# Altium schematic symbol library Capacitors.SchLib: 51 symbols
Pins are listed as number, name and electrical type; pins without a type are passive.

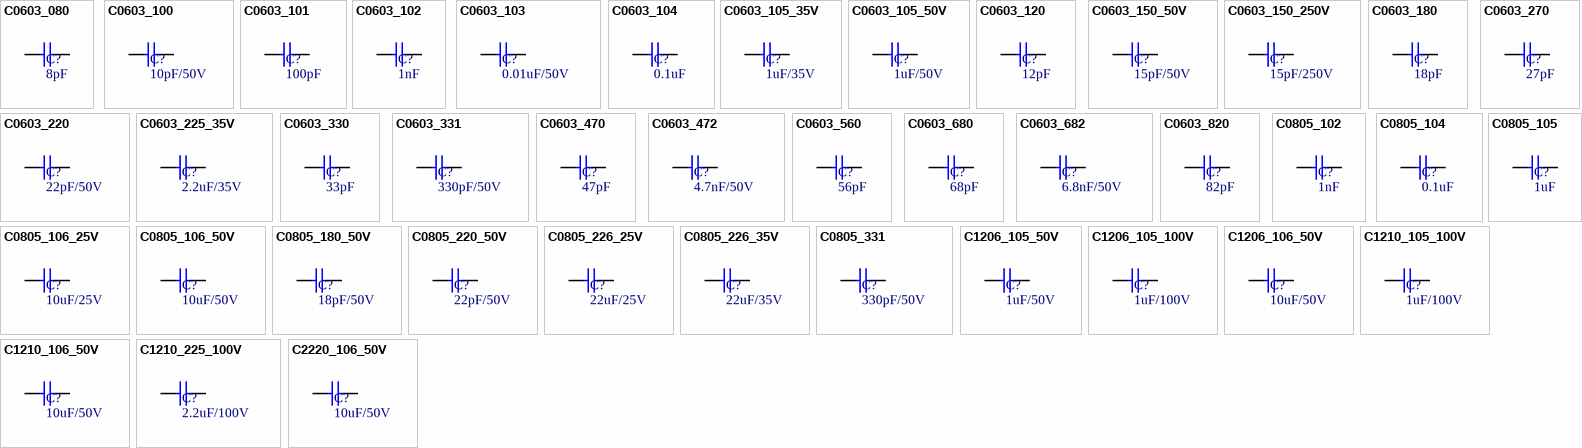
[diagram p0: symbols C0603_080 to C2220_106_50V]

## C0603_080
designator C?, comment 8pF
Capacitor 0603 8 pF; MFG: YAGEO; MFG P/N: CC0603DRNPO9BN8R0; Anunda_Code: M1855; Price: 0.6; Supplier: Digikey; Value: 8pF
simulation model CAP (Semiconductor Capacitor)
signal-integrity model Cap Semi
footprint C0603XS (Chip Capacitor; Body 1.6 x 0.8 mm (LxW typ))
pins: 1, 2

## C0603_100
designator C?, comment 10pF/50V
Capacitor 0603 10 pF 50V; MFG: KEMET; MFG P/N: C0603C100J5GAC7867; Anunda_Code: M0615; Price: 0.6; Supplier: Digikey; Value: 10pF/50V
simulation model CAP (Semiconductor Capacitor)
signal-integrity model Cap Semi
footprint C0603XS (Chip Capacitor; Body 1.6 x 0.8 mm (LxW typ))
pins: 1, 2

## C0603_101
designator C?, comment 100pF
Capacitor 0603 100 pF; MFG: TDK Corporation; MFG P/N: C1608C0G1H101J080AA; Anunda_Code: M0016; Price: 0.6; Supplier: Digikey; Value: 100pF
simulation model CAP (Semiconductor Capacitor)
signal-integrity model Cap Semi
footprint C0603XS (Chip Capacitor; Body 1.6 x 0.8 mm (LxW typ))
pins: 1, 2

## C0603_102
designator C?, comment 1nF
Capacitor 0603 1000 pF; MFG: KEMET; MFG P/N: C0603C102J5GAC7867; Anunda_Code: M0617; Price: 0.6; Supplier: Digikey; Value: 1nF
simulation model CAP (Semiconductor Capacitor)
signal-integrity model Cap Semi
footprint C0603XS (Chip Capacitor; Body 1.6 x 0.8 mm (LxW typ))
pins: 1, 2

## C0603_103
designator C?, comment 0.01uF/50V
Capacitor 0603 10000 pF 50V; MFG: YAGEO; MFG P/N: CC0603KRX7R9BB103; Anunda_Code: M0735; Price: 0.6; Supplier: Digikey; Value: 0.01uF/50V
simulation model CAP (Semiconductor Capacitor)
signal-integrity model Cap Semi
footprint C0603XS (Chip Capacitor; Body 1.6 x 0.8 mm (LxW typ))
pins: 1, 2

## C0603_104
designator C?, comment 0.1uF
Capacitor 0603 0.1 uF; MFG: YAGEO; MFG P/N: CC0603ZRY5V9BB104; Anunda_Code: M0020; Price: 0.6; Supplier: Digikey; Value: 0.1uF
simulation model CAP (Semiconductor Capacitor)
signal-integrity model Cap Semi
footprint C0603XS (Chip Capacitor; Body 1.6 x 0.8 mm (LxW typ))
pins: 1, 2

## C0603_105_35V
designator C?, comment 1uF/35V
Capacitor 0603 1 uF 35V X5R; MFG: TDK Corporation; MFG P/N: C1608X5R1V105K080AB; Anunda_Code: M0618; Price: 0.6; Supplier: Digikey; Value: 1uF/35V
simulation model CAP (Semiconductor Capacitor)
signal-integrity model Cap Semi
footprint C0603XS (Chip Capacitor; Body 1.6 x 0.8 mm (LxW typ))
pins: 1, 2

## C0603_105_50V
designator C?, comment 1uF/50V
Capacitor 0603 1 uF 50V X5R; MFG: Murata Electronics; MFG P/N: GRT188R61H105KE13D; Anunda_Code: M1942; Price: 0.6; Supplier: Digikey; Value: 1uF/50V
simulation model CAP (Semiconductor Capacitor)
signal-integrity model Cap Semi
footprint C0603XS (Chip Capacitor; Body 1.6 x 0.8 mm (LxW typ))
pins: 1, 2

## C0603_120
designator C?, comment 12pF
Capacitor 0603 12 pF; MFG: KEMET; MFG P/N: C0603C120J5GAC7867; Anunda_Code: M0015; Price: 0.6; Supplier: Digikey; Value: 12pF
simulation model CAP (Semiconductor Capacitor)
signal-integrity model Cap Semi
footprint C0603XS (Chip Capacitor; Body 1.6 x 0.8 mm (LxW typ))
pins: 1, 2

## C0603_150_50V
designator C?, comment 15pF/50V
Capacitor 0603 15 pF 50V; MFG: YAGEO; MFG P/N: CC0603JRNPO9BN150; Anunda_Code: M1421; Price: 0.6; Supplier: Digikey; Value: 15pF/50V
simulation model CAP (Semiconductor Capacitor)
signal-integrity model Cap Semi
footprint C0603XS (Chip Capacitor; Body 1.6 x 0.8 mm (LxW typ))
pins: 1, 2

## C0603_150_250V
designator C?, comment 15pF/250V
Capacitor 0603 15 pF 250V; MFG: YAGEO; MFG P/N: AC0603JRNPOYBN150; Anunda_Code: M0988; Price: 0.6; Supplier: Digikey; Value: 15pF/250V
simulation model CAP (Semiconductor Capacitor)
signal-integrity model Cap Semi
footprint C0603XS (Chip Capacitor; Body 1.6 x 0.8 mm (LxW typ))
pins: 1, 2

## C0603_180
designator C?, comment 18pF
Capacitor 0603 18 pF; MFG: Murata Electronics; MFG P/N: GRM1885C1H180JA01D; Anunda_Code: M0660; Price: 0.6; Supplier: Digikey; Value: 18pF
simulation model CAP (Semiconductor Capacitor)
signal-integrity model Cap Semi
footprint C0603XS (Chip Capacitor; Body 1.6 x 0.8 mm (LxW typ))
pins: 1, 2

## C0603_220
designator C?, comment 22pF/50V
Capacitor 0603 22 pF 50V; MFG: TDK Corporation; MFG P/N: C1608C0G1H220J080AA; Anunda_Code: M0614; Price: 0.6; Supplier: Digikey; Value: 22pF/50V
simulation model CAP (Semiconductor Capacitor)
signal-integrity model Cap Semi
footprint C0603XS (Chip Capacitor; Body 1.6 x 0.8 mm (LxW typ))
pins: 1, 2

## C0603_225_35V
designator C?, comment 2.2uF/35V
Capacitor 0603 2.2 uF 35V X5R; MFG: Murata Electronics; MFG P/N: GRM188R6YA225KA12D; Anunda_Code: M1944; Price: 0.6; Supplier: Digikey; Value: 2.2uF/35V
simulation model CAP (Semiconductor Capacitor)
signal-integrity model Cap Semi
footprint C0603XS (Chip Capacitor; Body 1.6 x 0.8 mm (LxW typ))
pins: 1, 2

## C0603_270
designator C?, comment 27pF
Capacitor 0603 27 pF; MFG: KEMET; MFG P/N: C0603C270J5GAC7867; Anunda_Code: M0684; Price: 0.6; Supplier: Digikey; Value: 27pF
simulation model CAP (Semiconductor Capacitor)
signal-integrity model Cap Semi
footprint C0603XS (Chip Capacitor; Body 1.6 x 0.8 mm (LxW typ))
pins: 1, 2

## C0603_330
designator C?, comment 33pF
Capacitor 0603 33 pF; MFG: Murata Electronics; MFG P/N: GRM1885C1H330JA01D; Anunda_Code: M0923; Price: 0.6; Supplier: Digikey; Value: 33pF
simulation model CAP (Semiconductor Capacitor)
signal-integrity model Cap Semi
footprint C0603XS (Chip Capacitor; Body 1.6 x 0.8 mm (LxW typ))
pins: 1, 2

## C0603_331
designator C?, comment 330pF/50V
Capacitor 0603 330 pF 50V; MFG: Murata Electronics; MFG P/N: GRM1885C1H331JA01D; Anunda_Code: M0616; Price: 0.6; Supplier: Digikey; Value: 330pF/50V
simulation model CAP (Semiconductor Capacitor)
signal-integrity model Cap Semi
footprint C0603XS (Chip Capacitor; Body 1.6 x 0.8 mm (LxW typ))
pins: 1, 2

## C0603_470
designator C?, comment 47pF
Capacitor 0603 47 pF; MFG: Murata Electronics; MFG P/N: GRM1885C1H470JA01D; Anunda_Code: M1173; Price: 0.6; Supplier: Digikey; Value: 47pF
simulation model CAP (Semiconductor Capacitor)
signal-integrity model Cap Semi
footprint C0603XS (Chip Capacitor; Body 1.6 x 0.8 mm (LxW typ))
pins: 1, 2

## C0603_472
designator C?, comment 4.7nF/50V
Capacitor 0603 4700 pF 50V; MFG: Samsung Electro-Mechanics; MFG P/N: CL10B472KB8NNNC; Anunda_Code: M0726; Price: 0.6; Supplier: Digikey; Value: 4.7nF/50V
simulation model CAP (Semiconductor Capacitor)
signal-integrity model Cap Semi
footprint C0603XS (Chip Capacitor; Body 1.6 x 0.8 mm (LxW typ))
pins: 1, 2

## C0603_560
designator C?, comment 56pF
Capacitor 0603 56 pF; MFG: YAGEO; MFG P/N: CC0603JRNPO9BN560; Anunda_Code: M1539; Price: 0.6; Supplier: Digikey; Value: 56pF
simulation model CAP (Semiconductor Capacitor)
signal-integrity model Cap Semi
footprint C0603XS (Chip Capacitor; Body 1.6 x 0.8 mm (LxW typ))
pins: 1, 2

## C0603_680
designator C?, comment 68pF
Capacitor 0603 68 pF; MFG: Samsung Electro-Mechanics; MFG P/N: CL10C680JB8NNNC; Anunda_Code: M1400; Price: 0.6; Supplier: Digikey; Value: 68pF
simulation model CAP (Semiconductor Capacitor)
signal-integrity model Cap Semi
footprint C0603XS (Chip Capacitor; Body 1.6 x 0.8 mm (LxW typ))
pins: 1, 2

## C0603_682
designator C?, comment 6.8nF/50V
Capacitor 0603 6800 pF 50V; MFG: Walsin Technology Corporation; MFG P/N: 0603B682K500CT; Anunda_Code: M2163; Price: 0.6; Supplier: Digikey; Value: 6.8nF/50V
simulation model CAP (Semiconductor Capacitor)
signal-integrity model Cap Semi
footprint C0603XS (Chip Capacitor; Body 1.6 x 0.8 mm (LxW typ))
pins: 1, 2

## C0603_820
designator C?, comment 82pF
Capacitor 0603 82 pF; MFG: Samsung Electro-Mechanics; MFG P/N: CL10C820JB81PND; Anunda_Code: M1401; Price: 0.6; Supplier: Digikey; Value: 82pF
simulation model CAP (Semiconductor Capacitor)
signal-integrity model Cap Semi
footprint C0603XS (Chip Capacitor; Body 1.6 x 0.8 mm (LxW typ))
pins: 1, 2

## C0805_102
designator C?, comment 1nF
Capacitor 0805 1 nF; MFG: KEMET; MFG P/N: C0805C102K5RAC7800; Anunda_Code: M0021; Price: 0.6; Supplier: Digikey; Value: 1nF
simulation model CAP (Semiconductor Capacitor)
signal-integrity model Cap Semi
footprint C0805XS (Chip Capacitor;)
pins: 1, 2

## C0805_104
designator C?, comment 0.1uF
Capacitor 0805 0.1 uF; MFG: KEMET; MFG P/N: C0805C104K5RAC7800; Anunda_Code: M0022; Price: 0.6; Supplier: Digikey; Value: 0.1uF
simulation model CAP (Semiconductor Capacitor)
signal-integrity model Cap Semi
footprint C0805XS (Chip Capacitor;)
pins: 1, 2

## C0805_105
designator C?, comment 1uF
Capacitor 0805 1 uF; MFG: Samsung Electro-Mechanics; MFG P/N: CL21A105KBCLNNC; Anunda_Code: M1084; Price: 0.6; Supplier: Digikey; Value: 1uF
simulation model CAP (Semiconductor Capacitor)
signal-integrity model Cap Semi
footprint C0805XS (Chip Capacitor;)
pins: 1, 2

## C0805_106_25V
designator C?, comment 10uF/25V
Capacitor 0805 10 uF 25V; MFG: Samsung Electro-Mechanics; MFG P/N: CL21A106KAYNNNE; Anunda_Code: M1424; Price: 0.6; Supplier: Digikey; Value: 10uF/25V
simulation model CAP (Semiconductor Capacitor)
signal-integrity model Cap Semi
footprint C0805XS (Chip Capacitor;)
pins: 1, 2

## C0805_106_50V
designator C?, comment 10uF/50V
Capacitor 0805 10 uF 50V; MFG: Murata Electronics; MFG P/N: GRM21BR61H106KE43L; Anunda_Code: M0037; Price: 0.6; Supplier: Digikey; Value: 10uF/50V
simulation model CAP (Semiconductor Capacitor)
signal-integrity model Cap Semi
footprint C0805XS (Chip Capacitor;)
pins: 1, 2

## C0805_180_50V
designator C?, comment 18pF/50V
Capacitor 0805 18 pF 50V; MFG: YAGEO; MFG P/N: CC0805JRNPO9BN180; Anunda_Code: M0035; Price: 0.6; Supplier: Digikey; Value: 18pF/50V
simulation model CAP (Semiconductor Capacitor)
signal-integrity model Cap Semi
footprint C0805XS (Chip Capacitor;)
pins: 1, 2

## C0805_220_50V
designator C?, comment 22pF/50V
Capacitor 0805 22 pF 50V; MFG: KYOCERA AVX; MFG P/N: 08055A220JAT2A; Anunda_Code: M0036; Price: 0.6; Supplier: Digikey; Value: 22pF/50V
simulation model CAP (Semiconductor Capacitor)
signal-integrity model Cap Semi
footprint C0805XS (Chip Capacitor;)
pins: 1, 2

## C0805_226_25V
designator C?, comment 22uF/25V
Capacitor 0805 22 uF 25V; MFG: Samsung Electro-Mechanics; MFG P/N: CL21A226MAYNNNE; Anunda_Code: M1711; Price: 0.6; Supplier: Digikey; Value: 22uF/25V
simulation model CAP (Semiconductor Capacitor)
signal-integrity model Cap Semi
footprint C0805XS (Chip Capacitor;)
pins: 1, 2

## C0805_226_35V
designator C?, comment 22uF/35V
Capacitor 0805 22 uF 35V; MFG: TDK Corporation; MFG P/N: C2012X5R1V226M125AC; Anunda_Code: M1707; Price: 0.6; Supplier: Digikey; Value: 22uF/35V
simulation model CAP (Semiconductor Capacitor)
signal-integrity model Cap Semi
footprint C0805XS (Chip Capacitor;)
pins: 1, 2

## C0805_331
designator C?, comment 330pF/50V
Capacitor 0805 330 pF 50V; MFG: KEMET; MFG P/N: C0805C331J5GAC7800; Anunda_Code: M0031; Price: 0.6; Supplier: Digikey; Value: 330pF/50V
simulation model CAP (Semiconductor Capacitor)
signal-integrity model Cap Semi
footprint C0805XS (Chip Capacitor;)
pins: 1, 2

## C1206_105_50V
designator C?, comment 1uF/50V
Capacitor 1206 1 uF 50V; MFG: Samsung Electro-Mechanics; MFG P/N: CL31B105KBHNFNE; Anunda_Code: M0038; Price: 0.6; Supplier: Digikey; Value: 1uF/50V
simulation model CAP (Semiconductor Capacitor)
signal-integrity model Cap Semi
footprint C1206
pins: 1, 2

## C1206_105_100V
designator C?, comment 1uF/100V
Capacitor 1206 1 uF 100V X7R; MFG: Samsung Electro-Mechanics; MFG P/N: CL31B105KCHNNNE; Anunda_Code: M2146; Price: 0.6; Supplier: Digikey; Value: 1uF/100V
simulation model CAP (Semiconductor Capacitor)
signal-integrity model Cap Semi
footprint C1206
pins: 1, 2

## C1206_106_50V
designator C?, comment 10uF/50V
Capacitor 1206 10 uF 50V; MFG: TDK Corporation; MFG P/N: C3216X5R1H106K160AB; Anunda_Code: M1093; Price: 0.6; Supplier: Digikey; Value: 10uF/50V
simulation model CAP (Semiconductor Capacitor)
signal-integrity model Cap Semi
footprint C1206
pins: 1, 2

## C1210_105_100V
designator C?, comment 1uF/100V
Capacitor 1210 1 uF 100V; MFG: Samsung Electro-Mechanics; MFG P/N: CL32B105KCJSNNE; Anunda_Code: M1088; Price: 0.6; Supplier: Digikey; Value: 1uF/100V
simulation model CAP (Semiconductor Capacitor)
signal-integrity model Cap Semi
footprint C1210
pins: 1, 2

## C1210_106_50V
designator C?, comment 10uF/50V
Capacitor 1210 10 uF 50V; MFG: Samsung Electro-Mechanics; MFG P/N: CL32B106KBJNNNE; Anunda_Code: M1047; Price: 0.6; Supplier: Digikey; Value: 10uF/50V
simulation model CAP (Semiconductor Capacitor)
signal-integrity model Cap Semi
footprint C1210
pins: 1, 2

## C1210_225_100V
designator C?, comment 2.2uF/100V
Capacitor SMD 1210 2.2 uF 100V 10% X7R; MFG: Samsung Electro-Mechanics; MFG P/N: CL32B225KCJSNNE; Anunda_Code: M1681; Price: 0.6; Supplier: Digikey; Value: 2.2uF/100V
simulation model CAP (Semiconductor Capacitor)
signal-integrity model Cap Semi
footprint C1210
pins: 1, 2

## C2220_106_50V
designator C?, comment 10uF/50V
Capacitor 2220 10 uF 50V; MFG: KYOCERA AVX; MFG P/N: 22205C106KAZ2A; Anunda_Code: M1134; Price: 0.6; Supplier: Digikey; Value: 10uF/50V
simulation model CAP (Semiconductor Capacitor)
signal-integrity model Cap Semi
footprint C2220 (Chip Capacitor, 2-Leads, Body 5.7x5.0mm, IPC Medium Density)
pins: 1, 2

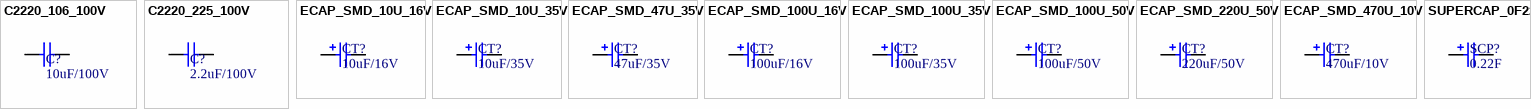
[diagram p1: symbols C2220_106_100V to SUPERCAP_0F22]

## C2220_106_100V
designator C?, comment 10uF/100V
Capacitor 2220 10 uF 100V; MFG: KYOCERA AVX; MFG P/N: 22201C106MAT2A; Anunda_Code: M1641; Price: 0.6; Supplier: Digikey; Value: 10uF/100V
simulation model CAP (Semiconductor Capacitor)
signal-integrity model Cap Semi
footprint C2220 (Chip Capacitor, 2-Leads, Body 5.7x5.0mm, IPC Medium Density)
pins: 1, 2

## C2220_225_100V
designator C?, comment 2.2uF/100V
Capacitor 2220 2.2 uF 100V; MFG: TDK Corporation; MFG P/N: C5750X7R2A225M230KA; Anunda_Code: M1633; Price: 0.6; Supplier: Digikey; Value: 2.2uF/100V
simulation model CAP (Semiconductor Capacitor)
signal-integrity model Cap Semi
footprint C2220 (Chip Capacitor, 2-Leads, Body 5.7x5.0mm, IPC Medium Density)
pins: 1, 2

## ECAP_SMD_10U_16V
designator CT?, comment 10uF/16V
Capacitor SMD Electrolytic 10 uF 16V; MFG: Nichicon; MFG P/N: UWT1C100MCL1GB; Anunda_Code: M2064; Price: 5.06; Supplier: Jacky; Value: 10uF/16V
simulation model CAP (Capacitor)
signal-integrity model Cap Pol
footprint E-CAP4X5.4
pins: 1, 2
1 alternate drawing of the same symbol

## ECAP_SMD_10U_35V
designator CT?, comment 10uF/35V
Capacitor SMD Electrolytic 10 uF 35V; MFG: Nichicon; MFG P/N: UWT1V100MCL1GB; Anunda_Code: M0086; Price: 5.06; Supplier: Jacky; Value: 10uF/35V
simulation model CAP (Capacitor)
signal-integrity model Cap Pol
footprint E-CAP5x5.4 (Aluminum Electrolytic Capacitor, Body 5.30x5.30x5.40mm, IPC Medium Density)
pins: 1, 2
1 alternate drawing of the same symbol

## ECAP_SMD_47U_35V
designator CT?, comment 47uF/35V
Capacitor SMD Electrolytic 47 uF 35V; MFG: Nichicon; MFG P/N: UWT1V470MCL1GS; Anunda_Code: M0103; Price: 5.06; Supplier: ES; Value: 47uF/35V
simulation model CAP (Capacitor)
signal-integrity model Cap Pol
footprint E-CAP6.3X5.8 (Aluminum Electrolytic Capacitor, Body 6.60x6.60x6.30mm, IPC Medium Density)
pins: 1, 2
1 alternate drawing of the same symbol

## ECAP_SMD_100U_16V
designator CT?, comment 100uF/16V
Capacitor SMD Electrolytic 100 uF 16V; MFG: Nichicon; MFG P/N: UWX1C101MCL1GB; Anunda_Code: M1912; Price: 5.06; Supplier: Jacky; Value: 100uF/16V
simulation model CAP (Capacitor)
signal-integrity model Cap Pol
footprint E-CAP6.3X5.5 (Aluminum Electrolytic Capacitor, Body 6.60x6.60x5.50mm, IPC Medium Density)
pins: 1, 2
1 alternate drawing of the same symbol

## ECAP_SMD_100U_35V
designator CT?, comment 100uF/35V
Capacitor SMD Electrolytic 100 uF 35V; MFG: Nichicon; MFG P/N: UWT1H101MNL1GS; Anunda_Code: M1521; Price: 5.06; Supplier: ES; Value: 100uF/35V
simulation model CAP (Capacitor)
signal-integrity model Cap Pol
footprint E-CAP6.3X7.7 (Aluminum Electrolytic Capacitor, Body 6.60x6.60x7.70mm, IPC Medium Density)
pins: 1, 2
1 alternate drawing of the same symbol

## ECAP_SMD_100U_50V
designator CT?, comment 100uF/50V
Capacitor SMD Electrolytic 100 uF 50V; MFG: Nichicon; MFG P/N: UWT1H101MNL1GS; Anunda_Code: M0088; Price: 5.06; Supplier: ES; Value: 100uF/50V
simulation model CAP (Capacitor)
signal-integrity model Cap Pol
footprint E-CAP8X10 (Aluminum Electrolytic Capacitor, Body 8.30x8.30x10.80mm, IPC Medium Density)
pins: 1, 2
1 alternate drawing of the same symbol

## ECAP_SMD_220U_50V
designator CT?, comment 220uF/50V
Capacitor SMD Electrolytic 220 uF 50V; MFG: Nichicon; MFG P/N: UWT1H221MNL1GS; Anunda_Code: M2135; Price: 5.06; Supplier: ES; Value: 220uF/50V
simulation model CAP (Capacitor)
signal-integrity model Cap Pol
footprint E-CAP10X10 (Aluminum Electrolytic Capacitor, Body 10x10x10.80mm, IPC Medium Density)
pins: 1, 2
1 alternate drawing of the same symbol

## ECAP_SMD_470U_10V
designator CT?, comment 470uF/10V
Capacitor SMD Electrolytic 470 uF 10V; MFG: Nichicon; MFG P/N: UWT1A471MNL1GS; Anunda_Code: M1750; Price: 5.06; Supplier: Jacky; Value: 470uF/10V
simulation model CAP (Capacitor)
signal-integrity model Cap Pol
footprint E-CAP8X10 (Aluminum Electrolytic Capacitor, Body 8.30x8.30x10.80mm, IPC Medium Density)
pins: 1, 2
1 alternate drawing of the same symbol

## SUPERCAP_0F22
designator SCP?, comment 0.22F
Capacitor Radial Stacked Coin 0.22 F 5.5V Double Layer; MFG: Panasonic Electronic Components; MFG P/N: EECS0HD224V; Anunda_Code: D0733; Price: 5.06; Supplier: Jacky; Value: 0.22F
footprint SUPERCAP_5V5 (Supercap diameter 10mm height)
pins: 1, 2
1 alternate drawing of the same symbol